# EAGLE library part LM5085 (library Buck_Controller)
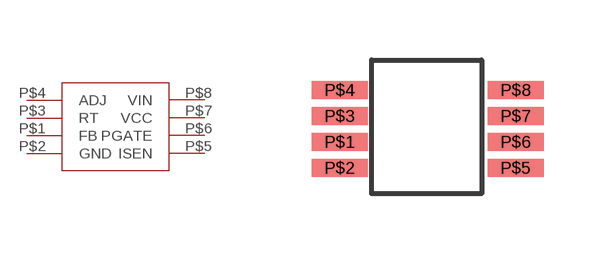
[diagram p0: symbol with the pads of LM5085; footprint LM5085]

Designator prefix -

## LM5085  [LM5085]
P$1  FB
P$2  GND
P$3  RT
P$4  ADJ
P$5  ISEN
P$6  PGATE
P$7  VCC
P$8  VIN

## Footprint LM5085 (pad centres in mm)
smd 1.4 x 0.45: P$1 0,0.65; P$2 0,0; P$3 0,1.3; P$4 0,1.95; P$5 4.4,0; P$6 4.4,0.65; P$7 4.4,1.3; P$8 4.4,1.95